# EAGLE library part MOLEX_52991-0400 (library isystems)
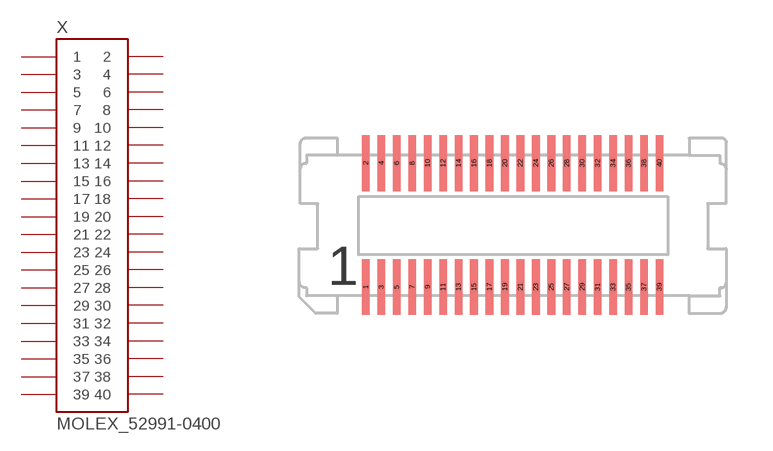
[diagram p19: symbol with the pads of MOLEX_52991-0400; footprint MOLEX_52991-0400]

Designator prefix X

## MOLEX_52991-0400  [MOLEX_52991-0400]
1  1
2  2
3  3
4  4
5  5
6  6
7  7
8  8
9  9
10  10
11  11
12  12
13  13
14  14
15  15
16  16
17  17
18  18
19  19
20  20
21  21
22  22
23  23
24  24
25  25
26  26
27  27
28  28
29  29
30  30
31  31
32  32
33  33
34  34
35  35
36  36
37  37
38  38
39  39
40  40

## Footprint MOLEX_52991-0400 (pad centres in mm)
smd 0.25 x 1.8: 1 -4.75,-2; 2 -4.75,2; 3 -4.25,-2; 4 -4.25,2; 5 -3.75,-2; 6 -3.75,2; 7 -3.25,-2; 8 -3.25,2; 9 -2.75,-2; 10 -2.75,2; 11 -2.25,-2; 12 -2.25,2; 13 -1.75,-2; 14 -1.75,2; 15 -1.25,-2; 16 -1.25,2; 17 -0.75,-2; 18 -0.75,2; 19 -0.25,-2; 20 -0.25,2; 21 0.25,-2; 22 0.25,2; 23 0.75,-2; 24 0.75,2; 25 1.25,-2; 26 1.25,2; 27 1.75,-2; 28 1.75,2; 29 2.25,-2; 30 2.25,2; 31 2.75,-2; 32 2.75,2; 33 3.25,-2; 34 3.25,2; 35 3.75,-2; 36 3.75,2; 37 4.25,-2; 38 4.25,2; 39 4.75,-2; 40 4.75,2